# Altium footprint library UNCLEAR.PcbLib: 52 footprints (part 3 of 4)
Each footprint in its own frame and in the unit in brackets; x right, y up, seen from the top. Pads: shape width x height; smd on the part's side, far side on the other; paste and mask are expansions set on the pad; w line width, h text height; cw(c..) or ccw(c..) is an arc to the next point about the centre after c.
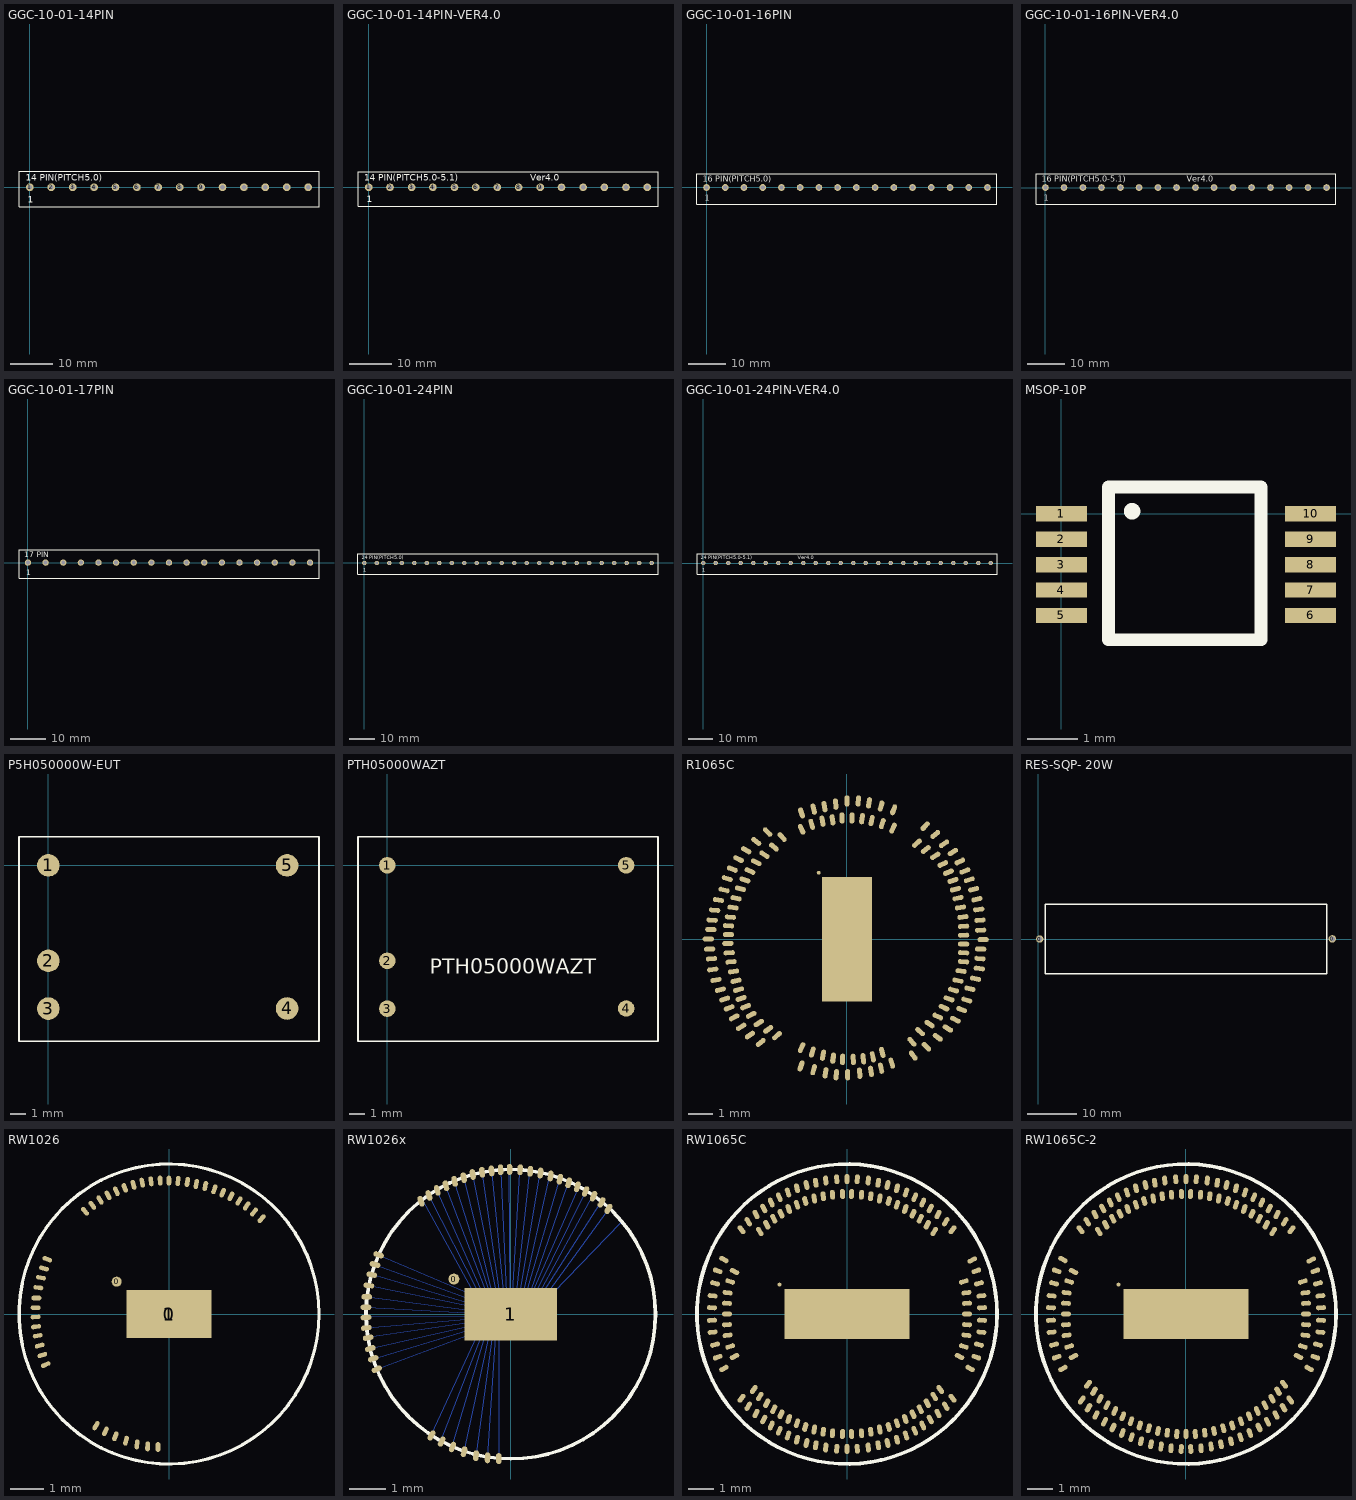
[diagram p2: the footprints below, top view; thin cyan lines are the x and y axes]

## GGC-10-01-14PIN [mm]
pads (14):
  round 1.8 hole 1.1: 1(0,0.002) 2(5,0.002) 3(10,0.002) 4(15,0.002) 5(20,0.002) 6(25,0.002) 7(30,0.002) 8(35,0.002) 9(40,0.002) 10(45,0.002) 11(50,0.002) 12(55,0.002) 13(60,0.002) 14(65,0.002)
Top Overlay:
  lines w0.254: -2.54,-4.498 -2.54,3.702 67.54,3.702 67.54,-4.498 -2.54,-4.498
  text "14 PIN(PITCH5.0)" at -1.016,1.526 h1.52
  text "1" at -0.508,-3.554 h1.52

## GGC-10-01-14PIN-VER4.0 [mm]
pads (14):
  round 1.8 hole 1.1: 1(0,0) 2(5,0) 3(10.1,0) 4(15.1,0) 5(20.2,0) 6(25.2,0) 7(30.3,0) 8(35.3,0) 9(40.4,0) 10(45.4,0) 11(50.5,0) 12(55.5,0) 13(60.6,0) 14(65.6,0)
Top Overlay:
  lines w0.254: -2.54,-4.5 -2.54,3.7 68.14,3.7 68.14,-4.5 -2.54,-4.5
  text "Ver4.0" at 38.1,1.524 h1.52
  text "14 PIN(PITCH5.0-5.1)" at -1.016,1.524 h1.52
  text "1" at -0.508,-3.556 h1.52

## GGC-10-01-16PIN [mm]
pads (16):
  round 1.8 hole 1.1: 1(-0.002,-0.001) 2(4.998,-0.001) 3(9.998,-0.001) 4(14.998,-0.001) 5(19.998,-0.001) 6(24.998,-0.001) 7(29.998,-0.001) 8(34.998,-0.001) 9(39.998,-0.001) 10(44.998,-0.001) 11(49.998,-0.001) 12(54.998,-0.001) 13(59.998,-0.001) 14(64.998,-0.001) 15(69.998,-0.001) 16(74.998,-0.001)
Top Overlay:
  lines w0.254: -2.542,-4.501 77.538,-4.501 77.538,3.699 -2.542,3.699 -2.542,-4.501
  text "1" at -0.51,-3.557 h1.52
  text "16 PIN(PITCH5.0)" at -1.018,1.523 h1.52

## GGC-10-01-16PIN-VER4.0 [mm]
pads (16):
  round 1.8 hole 1.1: 1(-0.001,0) 2(4.999,0) 3(10.099,0) 4(15.099,0) 5(20.199,0) 6(25.199,0) 7(30.299,0) 8(35.299,0) 9(40.399,0) 10(45.399,0) 11(50.499,0) 12(55.499,0) 13(60.599,0) 14(65.599,0) 15(70.699,0) 16(75.699,0)
Top Overlay:
  lines w0.254: -2.541,-4.5 78.239,-4.5 78.239,3.7 -2.541,3.7 -2.541,-4.5
  text "1" at -0.509,-3.556 h1.52
  text "16 PIN(PITCH5.0-5.1)" at -1.017,1.524 h1.52
  text "Ver4.0" at 38.099,1.524 h1.52

## GGC-10-01-17PIN [mm]
pads (17):
  round 1.8 hole 1.1: 1(0,0) 2(5,0) 3(10,0) 4(15,0) 5(20,0) 6(25,0) 7(30,0) 8(35,0) 9(40,0) 10(45,0) 11(50,0) 12(55,0) 13(60,0) 14(65,0) 15(70,0) 16(75,0) 17(80,0)
Top Overlay:
  lines w0.254: -2.54,-4.5 -2.54,3.7 82.54,3.7 82.54,-4.5 -2.54,-4.5
  text "17 PIN" at -1.016,1.524 h1.52
  text "1" at -0.508,-3.556 h1.52

## GGC-10-01-24PIN [mm]
pads (24):
  round 1.8 hole 1.1: 1(-0.002,-0.001) 2(4.998,-0.001) 3(9.998,-0.001) 4(14.998,-0.001) 5(19.998,-0.001) 6(24.998,-0.001) 7(29.998,-0.001) 8(34.998,-0.001) 9(39.998,-0.001) 10(44.998,-0.001) 11(49.998,-0.001) 12(54.998,-0.001) 13(59.998,-0.001) 14(64.998,-0.001) 15(69.998,-0.001) 16(74.998,-0.001) 17(79.998,-0.001) 18(84.998,-0.001) 19(89.998,-0.001) 20(94.998,-0.001) 21(99.998,-0.001) 22(104.998,-0.001) 23(109.998,-0.001) 24(114.998,-0.001)
Top Overlay:
  lines w0.254: -2.542,-4.501 -2.542,3.699 117.538,3.699 117.538,-4.501 -2.542,-4.501
  text "24 PIN(PITCH5.0)" at -1.018,1.523 h1.52
  text "1" at -0.51,-3.557 h1.52

## GGC-10-01-24PIN-VER4.0 [mm]
pads (24):
  round 1.8 hole 1.1: 1(-0.001,-0.001) 2(4.999,-0.001) 3(10.099,-0.001) 4(15.099,-0.001) 5(20.199,-0.001) 6(25.199,-0.001) 7(30.299,-0.001) 8(35.299,-0.001) 9(40.399,-0.001) 10(45.399,-0.001) 11(50.499,-0.001) 12(55.499,-0.001) 13(60.599,-0.001) 14(65.599,-0.001) 15(70.699,-0.001) 16(75.699,-0.001) 17(80.799,-0.001) 18(85.799,-0.001) 19(90.899,-0.001) 20(95.899,-0.001) 21(100.999,-0.001) 22(105.999,-0.001) 23(111.099,-0.001) 24(116.099,-0.001)
Top Overlay:
  lines w0.254: -2.541,-4.501 118.639,-4.501 118.639,3.699 -2.541,3.699 -2.541,-4.501
  text "1" at -0.509,-3.557 h1.52
  text "24 PIN(PITCH5.0-5.1)" at -1.017,1.523 h1.52
  text "Ver4.0" at 38.099,1.523 h1.52

## MSOP-10P [mm]
pads (10):
  rect 1x0.3 smd: 1(0,0) 2(0,-0.5) 3(0,-1) 4(0,-1.5) 5(0,-2) 6(4.9,-2) 7(4.9,-1.5) 8(4.9,-1) 9(4.9,-0.5) 10(4.9,0)
Top Overlay:
  circle w0.254: c1.39,0.05 r0.035
  lines w0.25: 0.925,-2.475 0.925,0.525 3.925,0.525 3.925,-2.475 0.925,-2.475
3D body "User Library-MSOP-10-1.STEP": height 1.05, standoff 0, extent -0.108,-2.517 4.919,0.483

## P5H050000W-EUT [mm]
pads (5):
  round 1.5 smd: 1(0,0) 2(0,-6.35) 3(0,-9.53) 4(15.88,-9.52) 5(15.88,0)
Top Overlay:
  lines w0.1: -1.95,1.89 -1.95,-11.7 17.99,-11.7 ; -1.95,1.9 17.99,1.9 ; 18,-11.7 18,1.89

## PTH05000WAZT [mm]
pads (5):
  round 1.1 smd: 1(0.004,-0.002) 2(0.004,-6.352) 3(0.004,-9.532) 4(15.884,-9.522) 5(15.884,-0.002)
Top Overlay:
  lines w0.1: -1.946,1.888 -1.946,-11.702 17.994,-11.702 ; -1.946,1.898 17.994,1.898 ; 18.004,-11.702 18.004,1.888
  text "PTH05000WAZT" at 2.829,-7.227 h1

## R1065C [mil]
pads (136):
  oval 18x8 smd rot 72: ADCP(-54.98,-179.03) C29(56.02,183.32)
  oval 18x8 smd rot 5: BS0P(-214.98,-31.03) S43(211.02,30.32)
  oval 18x8 smd rot 6: BS1P(-183.98,-36.03) S44(184.02,35.32)
  oval 18x8 smd rot 165: C0(-168.98,80.07) S28(169.02,-80.68)
  oval 18x8 smd rot 162: C1(-189.98,96.07) S27(190.02,-96.68)
  oval 18x8 smd rot 161: C2(-161.98,94.07) S26(162.02,-94.68)
  oval 18x8 smd rot 159: C3(-181.98,111.07) S25(182.02,-111.68)
  oval 18x8 smd rot 155: C4(-153.98,108.07) S24(154.02,-108.68)
  oval 18x8 smd rot 154: C5(-171.98,127.07) S23(172.02,-127.68)
  oval 18x8 smd rot 153: C6(-143.98,122.07) S22(144.02,-122.68)
  oval 18x8 smd rot 150: C7(-159.98,141.07) S21(160.02,-141.68)
  oval 18x8 smd rot 147: C8(-130.98,134.07) S20(131.02,-134.68)
  oval 18x8 smd rot 143: C9(-143.98,155.07) S19(144.02,-155.68)
  oval 18x8 smd rot 139: C10(-115.98,146.07) S18(116.02,-146.68)
  oval 18x8 smd rot 135: C11(-125.98,170.07) S17(126.02,-170.68)
  oval 18x8 smd rot 132: C12(-102.98,162.07) S16(103.02,-162.68)
  oval 18x8 smd rot 115: C13(-71.98,174.32)
  oval 18x8 smd rot 108: C14(-71.98,200.32) S14(71.02,-196.68)
  oval 18x8 smd rot 107: C15(-55.98,182.32)
  oval 18x8 smd rot 103: C16(-52.98,206.32) S12(54.02,-204.68)
  oval 18x8 smd rot 101: C17(-38.98,187.32) S11(41.02,-186.68)
  oval 18x8 smd rot 99: C18(-35.74,210.32) S10(38.02,-209.68)
  oval 18x8 smd rot 97: C19(-22.98,189.32)
  oval 18x8 smd rot 94: C20(-17.98,214.32) S8(20.02,-212.68)
  oval 18x8 smd rot 92: C21(-7.98,192.32) S7(10.02,-190.68)
  oval 8x18 smd: C22(0.02,219.32) S6(1.02,-215.03)
  oval 18x8 smd rot 88: C23(8.02,192.32) S5(-6.98,-190.68)
  oval 18x8 smd rot 85: C24(18.02,219.32) S4(-16.98,-215.03)
  oval 18x8 smd rot 83: C25(24.02,191.32) S3(-21.98,-188.68)
  oval 18x8 smd rot 81: C26(35.02,216.32) S2(-33.98,-212.03)
  oval 18x8 smd rot 78: C27(39.02,188.32) S1(-37.98,-184.03)
  oval 18x8 smd rot 75: C28(54.02,211.32) S0(-52.98,-207.03)
  oval 18x8 smd rot 70: C30(74.02,205.32) CLL(-72.98,-201.03)
  oval 18x8 smd rot 66: C31(73.02,176.32) VSS(-71.98,-172.03)
  oval 18x8 smd rot 178: CAP1N(-215.98,15.32) S37(212.02,-15.68)
  oval 18x8 smd rot 179: CAP1P(-187.98,7.32) S38(185.02,-7.68)
  oval 18x8 smd rot 1: CAP2N(-188.98,-6.68) S40(185.02,6.32)
  oval 18x8 smd: CAP2P(-219.98,0.32) S39(216.02,-0.68)
  oval 18x8 smd rot 176: CAP3P(-187.98,21.32) S36(185.02,-21.68)
  oval 18x8 smd rot 12: CLSP(-207.98,-64.68)
  oval 18x8 smd rot 23: CS1BP(-160.98,-107.03) S54(161.02,106.32)
  oval 18x8 smd rot 22: CS2P(-186.98,-109.03) S53(187.02,108.32)
  oval 18x8 smd rot 42: D0(-110.98,-153.03) S62(111.02,152.32)
  oval 18x8 smd rot 40: D1(-136.98,-163.68) S61(140.02,166.32)
  oval 18x8 smd rot 37: D2(-124.98,-143.03) S60(125.02,142.32)
  oval 18x8 smd rot 35: D3(-153.98,-152.03) S59(154.02,151.32)
  oval 18x8 smd rot 32: D4(-139.98,-133.03) S58(140.02,132.32)
  oval 18x8 smd rot 31: D5(-167.98,-139.03) S57(168.02,138.32)
  oval 18x8 smd rot 27: D6(-151.98,-120.03) D7(-178.98,-124.03) S55(179.02,123.32) S56(152.02,119.32)
  oval 18x8 smd rot 19: E(-167.98,-94.03) S52(168.02,93.32)
  oval 18x8 smd rot 10: FRR(-179.98,-51.03) S46(180.02,50.32)
  oval 18x8 smd rot 8: MSP(-212.98,-48.03) S45(209.02,47.32)
  oval 18x8 smd rot 18: RS(-193.98,-95.03) S51(194.02,94.32)
  oval 18x8 smd rot 13: RSTP(-175.98,-66.03) S48(176.02,65.32)
  oval 18x8 smd rot 16: RW(-171.98,-80.03) S50(172.02,79.32)
  oval 18x8 smd rot 96: S9(26.02,-189.68)
  oval 18x8 smd rot 105: S13(56.02,-179.68)
  oval 18x8 smd rot 127: S15(105.02,-184.68)
  oval 18x8 smd rot 166: S29(195.02,-78.68) V1(-194.98,78.07)
  oval 18x8 smd rot 168: S30(176.02,-65.68) V4(-175.98,65.07)
  oval 18x8 smd rot 169: S31(204.02,-62.68) V2(-203.98,62.07)
  oval 18x8 smd rot 172: S32(181.02,-50.68) V3(-180.98,50.07)
  oval 18x8 smd rot 173: S33(210.02,-46.68) VRAE(-209.98,46.07)
  oval 18x8 smd rot 174: S34(185.02,-35.68) V0(-184.98,35.07)
  oval 18x8 smd rot 175: S35(211.02,-30.68) VOUT(-213.98,30.32)
  oval 18x8 smd rot 2: S41(212.02,14.32) VDD2(-217.98,-15.68)
  oval 18x8 smd rot 4: S42(185.02,20.32) SHLP(-186.98,-21.68)
  oval 18x8 smd rot 14: S47(206.02,63.32)
  oval 18x8 smd rot 15: S49(201.02,79.32) VDD(-200.98,-80.03)
  oval 18x8 smd rot 46: S63(124.02,179.32)
  round 6 smd: ""(-44.98,105.32)
  round 465 on Top Solder: ""(0.02,0.32)
  rect 79x198 smd: ""(0.02,-0.03)
Bottom Overlay:
  circle w5: c0.02,0.32 r238

## RES-SQP- 20W [mm]
pads (2):
  round 1.5 hole 1: 0(0.26,0) 0(59.521,0.027)
Top Overlay:
  lines w0.254: 1.391,-7 1.391,7 58.388,7 58.388,-7 1.391,-7
3D body "RES SQP 20W.STEP": height 13, standoff -2.4, extent -0.082,-7.002 59.918,6.998

## RW1026 [mm]
pads (44):
  round 0.3 smd: 0(-1.57,0.97)
  round 8.6 on Top Solder: 0(0,0)
  rect 2.55x1.45 smd: 1(0,0)
  oval 0.3x0.14 smd rot 16: A0(-3.88,-0.95)
  oval 0.3x0.14 smd rot 77: COM0(-1.29,-3.8)
  oval 0.3x0.14 smd rot 85: COM1(-0.96,-3.91)
  oval 0.3x0.14 smd rot 88: COM2(-0.64,-3.97)
  oval 0.14x0.3 smd: COM3(-0.33,-3.99) S10(-0.002,4)
  oval 0.3x0.14 smd rot 12: CSB(-3.94,-0.65)
  oval 0.3x0.14 smd rot 24: DATA(-3.7,-1.52)
  oval 0.3x0.14 smd rot 4: IF0(-4,-0.09)
  oval 0.3x0.14 smd: IF1(-4,0.19) VDD(-3.98,0.48)
  oval 0.3x0.14 smd rot 65: OSC1(-1.91,-3.52)
  oval 0.3x0.14 smd rot 60: OSC2(-2.19,-3.35) S18(2.1,3.39)
  oval 0.3x0.14 smd rot 70: RST(-1.61,-3.67)
  oval 0.3x0.14 smd rot 130: S0(-2.52,3.08)
  oval 0.3x0.14 smd rot 126: S1(-2.3,3.26)
  oval 0.3x0.14 smd rot 122: S2(-2.07,3.42)
  oval 0.3x0.14 smd rot 118: S3(-1.83,3.56)
  oval 0.3x0.14 smd rot 114: S4(-1.58,3.68)
  oval 0.3x0.14 smd rot 110: S5(-1.324,3.784)
  oval 0.3x0.14 smd rot 106: S6(-1.064,3.874)
  oval 0.3x0.14 smd rot 102: S7(-0.805,3.94)
  oval 0.3x0.14 smd rot 98: S8(-0.539,3.981)
  oval 0.3x0.14 smd rot 92: S9(-0.265,4.002)
  oval 0.3x0.14 smd rot 86: S11(0.27,3.99)
  oval 0.3x0.14 smd rot 82: S12(0.55,3.96)
  oval 0.3x0.14 smd rot 80: S13(0.82,3.9)
  oval 0.3x0.14 smd rot 76: S14(1.09,3.84)
  oval 0.3x0.14 smd rot 72: S15(1.36,3.74)
  oval 0.3x0.14 smd rot 68: S16(1.61,3.64)
  oval 0.3x0.14 smd rot 64: S17(1.86,3.53)
  oval 0.3x0.14 smd rot 56: S19(2.33,3.24)
  oval 0.3x0.14 smd rot 52: S20(2.55,3.06)
  oval 0.3x0.14 smd rot 48: S21(2.78,2.86)
  oval 0.3x0.14 smd rot 20: SCLK(-3.8,-1.23)
  oval 0.3x0.14 smd rot 172: V0(-3.92,0.79)
  oval 0.3x0.14 smd rot 168: V1(-3.84,1.09)
  oval 0.3x0.14 smd rot 164: V2(-3.75,1.37)
  oval 0.3x0.14 smd rot 160: VRAB(-3.65,1.64)
  oval 0.3x0.14 smd rot 8: VSS(-3.99,-0.38)
Top Overlay:
  circle w0.1: c0,0 r4.5

## RW1026x [mm]
pads (110):
  round 0.3 smd: 0(-1.57,0.97)
  rect 0.08x0.08 smd far side: 1(-1.22,0.59) 2(-1.22,0.465) 3(-1.22,0.346) 4(-1.22,0.236) 5(-1.22,0.137) 6(-1.22,0.044) 7(-1.22,-0.047) 8(-1.22,-0.14) 9(-1.22,-0.239) 10(-1.22,-0.349) 11(-1.22,-0.468) 12(-1.22,-0.592) 13(-0.92,-0.592) 14(-0.801,-0.592) 15(-0.691,-0.592) 16(-0.592,-0.592) 17(-0.499,-0.592) 18(-0.407,-0.592) 19(-0.314,-0.592) 20(-0.222,-0.592) 21(-0.129,-0.592) 22(-0.037,-0.592) 23(0.055,-0.592) 24(0.147,-0.592) 25(0.24,-0.592) 26(0.332,-0.592) 27(0.425,-0.592) 28(0.517,-0.592) 29(0.61,-0.592) 30(0.702,-0.592) 31(0.802,-0.592) 32(0.911,-0.592) 33(1.031,-0.592) 34(1.152,-0.592) 35(1.152,-0.468) 36(1.152,-0.349) 37(1.152,-0.239) 38(1.152,-0.14) 39(1.152,-0.047) 40(1.152,0.044) 41(1.152,0.137) 42(1.152,0.236) 43(1.152,0.346) 44(1.152,0.465) 45(1.152,0.592) 46(1.024,0.592) 47(0.904,0.592) 48(0.8,0.592) 49(0.707,0.592) 50(0.615,0.592) 51(0.522,0.592) 52(0.43,0.592) 53(0.337,0.592) 54(0.245,0.592) 55(0.152,0.592) 56(0.06,0.592) 57(-0.032,0.592) 58(-0.124,0.592) 59(-0.217,0.592) 60(-0.309,0.592) 61(-0.402,0.592) 62(-0.494,0.592) 63(-0.587,0.592) 64(-0.679,0.592) 65(-0.779,0.592) 66(-0.888,0.592) 67(-1.008,0.592)
  rect 2.55x1.45 smd: 1(0,0)
  oval 0.3x0.15 smd rot 16: A0(-3.88,-0.95)
  oval 0.3x0.15 smd rot 77: COM0(-1.29,-3.8)
  oval 0.3x0.15 smd rot 85: COM1(-0.96,-3.91)
  oval 0.3x0.15 smd rot 88: COM2(-0.64,-3.97) S11(0.26,3.99)
  oval 0.15x0.3 smd: COM3(-0.33,-3.99) S10(-0.03,4)
  oval 0.3x0.15 smd rot 12: CSB(-3.94,-0.65)
  oval 0.3x0.15 smd rot 24: DATA(-3.7,-1.52)
  oval 0.3x0.15 smd rot 4: IF0(-4,-0.09)
  oval 0.3x0.15 smd: IF1(-4,0.19) VDD(-3.98,0.48)
  oval 0.3x0.15 smd rot 65: OSC1(-1.91,-3.52)
  oval 0.3x0.15 smd rot 60: OSC2(-2.19,-3.35) S21(2.7,2.91)
  oval 0.3x0.15 smd rot 70: RST(-1.61,-3.67)
  oval 0.3x0.15 smd rot 110: S0(-2.48,3.12)
  oval 0.3x0.15 smd rot 108: S1(-2.26,3.28)
  oval 0.3x0.15 smd rot 106: S2(-2.03,3.42)
  oval 0.3x0.15 smd rot 104: S3(-1.79,3.55)
  oval 0.3x0.15 smd rot 102: S4(-1.55,3.67)
  oval 0.3x0.15 smd rot 100: S5(-1.3,3.77)
  oval 0.3x0.15 smd rot 98: S6(-1.05,3.86)
  oval 0.3x0.15 smd rot 96: S7(-0.79,3.92)
  oval 0.3x0.15 smd rot 94: S8(-0.53,3.96)
  oval 0.3x0.15 smd rot 92: S9(-0.28,3.99)
  oval 0.3x0.15 smd rot 86: S12(0.54,3.95)
  oval 0.3x0.15 smd rot 84: S13(0.82,3.9)
  oval 0.3x0.15 smd rot 81: S14(1.1,3.82)
  oval 0.3x0.15 smd rot 78: S15(1.36,3.73)
  oval 0.3x0.15 smd rot 75: S16(1.6,3.63)
  oval 0.3x0.15 smd rot 72: S17(1.84,3.52)
  oval 0.3x0.15 smd rot 69: S18(2.07,3.39)
  oval 0.3x0.15 smd rot 66: S19(2.29,3.26)
  oval 0.3x0.15 smd rot 63: S20(2.51,3.09)
  oval 0.3x0.15 smd rot 20: SCLK(-3.8,-1.23)
  oval 0.3x0.15 smd rot 172: V0(-3.92,0.79)
  oval 0.3x0.15 smd rot 168: V1(-3.84,1.09)
  oval 0.3x0.15 smd rot 164: V2(-3.75,1.37)
  oval 0.3x0.15 smd rot 160: VRAB(-3.65,1.64)
  oval 0.3x0.15 smd rot 8: VSS(-3.99,-0.38)
Bottom Layer:
  lines w0.01: -4,-0.07 -1.214,-0.057 ; -3.98,0.19 -1.22,0.044 ; -3.97,-0.38 -1.232,-0.14 ; -3.97,0.48 -1.222,0.127 ; -3.932,0.8 -1.212,0.24 ; -3.91,-0.63 -1.232,-0.23 ; -3.85,-0.94 -1.232,-0.35 ; -3.83,1.1 -1.212,0.336 ; -3.79,-1.23 -1.224,-0.46 ; -3.75,1.37 -1.212,0.455 ; -3.68,-1.51 -1.232,-0.59 ; -3.66,1.64 -1.212,0.6 ; -2.42,3.1 -1.018,0.582 ; -2.26,3.27 -0.898,0.592 ; -2.18,-3.32 -0.92,-0.592 ; -2.03,3.38 -0.79,0.584 ; -1.92,-3.48 -0.8,-0.59 ; -1.79,3.51 -0.68,0.592 ; -1.6,-3.61 -0.7,-0.592 ; -1.54,3.61 -0.597,0.592 ; -1.28,3.7 -0.52,0.592 ; -1.27,-3.73 -0.6,-0.602 ; -1.05,3.81 -0.4,0.584 ; -0.94,-3.83 -0.49,-0.602 ; -0.79,3.85 -0.319,0.592 ; -0.64,-3.95 -0.41,-0.612 ; -0.53,3.89 -0.21,0.602 ; -0.32,-3.9 -0.31,-0.612 ; -0.27,3.93 -0.12,0.602 ; -0.05,3.91 -0.03,0.592 ; 0.05,0.592 0.25,3.9 ; 0.16,0.602 0.52,3.91 ; 0.27,0.622 0.8,3.83 ; 0.36,0.612 1.07,3.75 ; 0.45,0.604 1.34,3.68 ; 0.55,0.622 1.58,3.58 ; 0.625,0.632 1.86,3.47 ; 0.712,0.612 2.07,3.38 ; 0.8,0.596 2.26,3.25 ; 0.9,0.612 2.47,3.06 ; 1.034,0.612 2.69,2.89 ; 1.18,0.592 3.05,2.54
Top Overlay:
  circle w0.1: c0,0 r4

## RW1065C [mm] "LCD  DRIVER"
pads (135):
  oval 0.4x0.2 smd rot 18: ADCR(4.675,1.3) C28(-4.675,-1.3)
  oval 0.4x0.2 smd rot 86: BS0P(0.85,5.34) S43(-0.85,-5.34)
  oval 0.4x0.2 smd rot 83: BS1P(0.95,4.71) S44(-0.95,-4.71)
  oval 0.4x0.2 smd rot 108: C0(-2,4.37) C1(-2.36,4.86) S27(2.36,-4.86) S28(2,-4.37)
  oval 0.4x0.2 smd rot 110: C2(-2.33,4.2) S26(2.33,-4.2)
  oval 0.4x0.2 smd rot 113: C3(-2.71,4.67) C4(-2.64,4.01) C5(-3.03,4.46) S23(3.03,-4.46) S24(2.64,-4.01) S25(2.71,-4.67)
  oval 0.4x0.2 smd rot 115: C6(-2.93,3.81) C7(-3.33,4.22) S21(3.33,-4.22) S22(2.93,-3.81)
  oval 0.4x0.2 smd rot 118: C8(-3.21,3.57) C9(-3.64,3.98) S19(3.64,-3.98) S20(3.21,-3.57)
  oval 0.4x0.2 smd rot 123: C10(-3.49,3.3) C11(-3.95,3.69) S17(3.95,-3.69) S18(3.49,-3.3)
  oval 0.4x0.2 smd rot 128: C12(-4.22,3.37) S15(4.22,-3.37)
  oval 0.4x0.2 smd rot 153: C13(-4.925,2.175) S14(4.925,-2.175)
  oval 0.4x0.2 smd rot 155: C14(-4.5,1.7) S13(4.5,-1.7)
  oval 0.4x0.2 smd rot 160: C15(-5.175,1.725) S12(5.175,-1.725)
  oval 0.4x0.2 smd rot 162: C16(-4.675,1.3) S11(4.675,-1.3)
  oval 0.4x0.2 smd rot 165: C17(-5.275,1.225) S10(5.275,-1.225)
  oval 0.4x0.2 smd rot 170: C18(-4.775,0.85) S9(4.775,-0.85)
  oval 0.4x0.2 smd rot 173: C19(-5.375,0.725) S8(5.375,-0.725)
  oval 0.4x0.2 smd rot 175: C20(-4.8,0.425) S7(4.8,-0.425)
  oval 0.4x0.2 smd rot 177: C21(-5.4,0.253) S6(5.4,-0.253)
  oval 0.4x0.2 smd: C22(-4.8,0) S5(4.8,0)
  oval 0.4x0.2 smd rot 3: C23(-5.4,-0.253) S4(5.4,0.253)
  oval 0.4x0.2 smd rot 5: C24(-4.8,-0.425) S3(4.8,0.425)
  oval 0.4x0.2 smd rot 7: C25(-5.375,-0.725) S2(5.375,0.725)
  oval 0.4x0.2 smd rot 10: C26(-4.775,-0.85) S1(4.775,0.85)
  oval 0.4x0.2 smd rot 15: C27(-5.275,-1.225) S0(5.275,1.225)
  oval 0.4x0.2 smd rot 20: C29(-5.175,-1.725) CLL(5.175,1.725)
  oval 0.4x0.2 smd rot 25: C30(-4.5,-1.7) VSS(5.01,2.16)
  oval 0.4x0.2 smd rot 27: C31(-4.925,-2.175)
  oval 0.4x0.2 smd rot 93: CAP1N(-0.41,5.39) S37(0.41,-5.39)
  oval 0.4x0.2 smd rot 92: CAP1P(-0.18,4.8) S38(0.18,-4.8)
  oval 0.4x0.2 smd rot 88: CAP2N(0.18,4.8) S40(-0.18,-4.8)
  oval 0.2x0.4 smd: CAP2P(0.001,5.397) S39(-0.001,-5.397)
  oval 0.4x0.2 smd rot 95: CAP3P(-0.58,4.77) S36(0.58,-4.77)
  oval 0.4x0.2 smd rot 77: CLS(1.62,5.16) S47(-1.62,-5.16)
  oval 0.4x0.2 smd rot 67: CS1BP(2.64,4.01) CS2P(2.71,4.67) D7(3.03,4.46) S53(-2.71,-4.67) S54(-2.64,-4.01) S55(-3.03,-4.46)
  oval 0.4x0.2 smd rot 52: D0(4.22,3.37) S63(-4.22,-3.37)
  oval 0.4x0.2 smd rot 57: D1(3.95,3.69) D2(3.49,3.3) S60(-3.49,-3.3) S61(-3.95,-3.69)
  oval 0.4x0.2 smd rot 62: D3(3.64,3.98) D4(3.21,3.57) S58(-3.21,-3.57) S59(-3.64,-3.98)
  oval 0.4x0.2 smd rot 65: D5(3.33,4.22) D6(2.93,3.81) S56(-2.93,-3.81) S57(-3.33,-4.22)
  oval 0.4x0.2 smd rot 70: E(2.33,4.2) S52(-2.33,-4.2)
  oval 0.4x0.2 smd rot 80: FRR(1.31,4.62) MSP(1.25,5.25) S45(-1.25,-5.25) S46(-1.31,-4.62)
  oval 0.4x0.2 smd rot 72: RS(2.36,4.86) RW(2,4.37) S50(-2,-4.37) S51(-2.36,-4.86)
  oval 0.4x0.2 smd rot 75: RST(1.67,4.52) S48(-1.67,-4.52) S49(-2,-5.03) VDD(2,5.03)
  oval 0.4x0.2 smd rot 126: S16(3.73,-3.02)
  oval 0.4x0.2 smd rot 105: S29(2,-5.03) S30(1.67,-4.52) V1(-2,5.03) V4(-1.67,4.52)
  oval 0.4x0.2 smd rot 103: S31(1.62,-5.16) V2(-1.62,5.16)
  oval 0.4x0.2 smd rot 100: S32(1.31,-4.62) S33(1.25,-5.25) V3(-1.31,4.62) VRAB(-1.25,5.25)
  oval 0.4x0.2 smd rot 97: S34(0.95,-4.71) V0(-0.95,4.71)
  oval 0.4x0.2 smd rot 94: S35(0.85,-5.34) VOUT(-0.85,5.34)
  oval 0.4x0.2 smd rot 87: S41(-0.41,-5.39) VDD2(0.41,5.39)
  oval 0.4x0.2 smd rot 85: S42(-0.58,-4.77) SHLP(0.58,4.77)
  oval 0.4x0.2 smd rot 54: S62(-3.73,-3.02)
  round 0.152 smd: ""(-2.7,1.175)
  rect 5x2 smd: ""(0,0)
Top Overlay:
  circle w0.15: c0,0 r6
Top Solder:
  circle w6: c0,0 r2.8

## RW1065C-2 [mm]
pads (135):
  oval 0.4x0.2 smd rot 18: ADCR(4.675,1.3) C28(-4.675,-1.3)
  oval 0.4x0.2 smd rot 86: BS0P(0.85,5.34)
  oval 0.4x0.2 smd rot 83: BS1P(0.95,4.71)
  oval 0.4x0.2 smd rot 108: C0(-2,4.37) C1(-2.36,4.86) S27(2.201,-4.29) S28(2.181,-4.93)
  oval 0.4x0.2 smd rot 110: C2(-2.33,4.2) S25(2.531,-4.09) S26(2.551,-4.76)
  oval 0.4x0.2 smd rot 113: C3(-2.71,4.67) C4(-2.64,4.01) C5(-3.03,4.46) S23(2.851,-3.88) S24(2.921,-4.54)
  oval 0.4x0.2 smd rot 115: C6(-2.93,3.81) C7(-3.33,4.22) S21(3.161,-3.65) S22(3.261,-4.31)
  oval 0.4x0.2 smd rot 118: C8(-3.21,3.57) C9(-3.64,3.98) S19(3.441,-3.39) S20(3.601,-4.04)
  oval 0.4x0.2 smd rot 123: C10(-3.49,3.3) C11(-3.95,3.69) S17(3.681,-3.09) S18(3.901,-3.75)
  oval 0.4x0.2 smd rot 128: C12(-4.22,3.37) S15(3.921,-2.81)
  oval 0.4x0.2 smd rot 153: C13(-4.925,2.175) S14(4.925,-2.175)
  oval 0.4x0.2 smd rot 155: C14(-4.5,1.7) S13(4.5,-1.7)
  oval 0.4x0.2 smd rot 160: C15(-5.175,1.725) S12(5.175,-1.725)
  oval 0.4x0.2 smd rot 162: C16(-4.675,1.3) S11(4.675,-1.3)
  oval 0.4x0.2 smd rot 165: C17(-5.275,1.225) S10(5.275,-1.225)
  oval 0.4x0.2 smd rot 170: C18(-4.775,0.85) S9(4.775,-0.85)
  oval 0.4x0.2 smd rot 173: C19(-5.375,0.725) S8(5.375,-0.725)
  oval 0.4x0.2 smd rot 175: C20(-4.8,0.425) S7(4.8,-0.425)
  oval 0.4x0.2 smd rot 177: C21(-5.4,0.253) S6(5.4,-0.253)
  oval 0.4x0.2 smd: C22(-4.8,0) S5(4.8,0)
  oval 0.4x0.2 smd rot 3: C23(-5.4,-0.253) S4(5.4,0.253)
  oval 0.4x0.2 smd rot 5: C24(-4.8,-0.425) S3(4.8,0.425)
  oval 0.4x0.2 smd rot 7: C25(-5.375,-0.725) S2(5.375,0.725)
  oval 0.4x0.2 smd rot 10: C26(-4.775,-0.85) S1(4.775,0.85)
  oval 0.4x0.2 smd rot 15: C27(-5.275,-1.225) S0(5.275,1.225)
  oval 0.4x0.2 smd rot 20: C29(-5.175,-1.725) CLL(5.175,1.725)
  oval 0.4x0.2 smd rot 25: C30(-4.5,-1.7) VSS(5.01,2.16)
  oval 0.4x0.2 smd rot 27: C31(-4.925,-2.175)
  oval 0.4x0.2 smd rot 93: CAP1N(-0.41,5.39) S37(0.371,-4.8)
  oval 0.4x0.2 smd rot 92: CAP1P(-0.18,4.8) S38(0.191,-5.4)
  oval 0.4x0.2 smd rot 88: CAP2N(0.18,4.8) S40(-0.189,-5.4)
  oval 0.2x0.4 smd: CAP2P(0.001,5.397) S39(0.001,-4.797)
  oval 0.4x0.2 smd rot 95: CAP3P(-0.58,4.77) S36(0.601,-5.37)
  oval 0.4x0.2 smd rot 77: CLS(1.62,5.16) S47(-1.489,-4.57)
  oval 0.4x0.2 smd rot 67: CS1BP(2.64,4.01) CS2P(2.71,4.67) D7(3.03,4.46) S54(-2.919,-4.54) S55(-2.849,-3.88)
  oval 0.4x0.2 smd rot 52: D0(4.22,3.37) S63(-3.919,-2.81)
  oval 0.4x0.2 smd rot 57: D1(3.95,3.69) D2(3.49,3.3) S60(-3.899,-3.75) S61(-3.679,-3.09)
  oval 0.4x0.2 smd rot 62: D3(3.64,3.98) D4(3.21,3.57) S58(-3.599,-4.04) S59(-3.439,-3.39)
  oval 0.4x0.2 smd rot 65: D5(3.33,4.22) D6(2.93,3.81) S56(-3.259,-4.31) S57(-3.159,-3.65)
  oval 0.4x0.2 smd rot 70: E(2.33,4.2) S52(-2.549,-4.76) S53(-2.529,-4.09)
  oval 0.4x0.2 smd rot 80: FRR(1.31,4.62) MSP(1.25,5.25) S45(-1.119,-4.68) S46(-1.399,-5.21)
  oval 0.4x0.2 smd rot 72: RS(2.36,4.86) RW(2,4.37) S50(-2.179,-4.93) S51(-2.199,-4.29)
  oval 0.4x0.2 smd rot 75: RST(1.67,4.52) S48(-1.799,-5.09) S49(-1.849,-4.46) VDD(2,5.03)
  oval 0.4x0.2 smd rot 126: S16(4.171,-3.44)
  oval 0.4x0.2 smd rot 105: S29(1.851,-4.46) S30(1.801,-5.09) V1(-2,5.03) V4(-1.67,4.52)
  oval 0.4x0.2 smd rot 103: S31(1.491,-4.57) V2(-1.62,5.16)
  oval 0.4x0.2 smd rot 100: S32(1.401,-5.21) S33(1.121,-4.68) V3(-1.31,4.62) VRAB(-1.25,5.25)
  oval 0.4x0.2 smd rot 96: S34(1.001,-5.3) S35(0.751,-4.75)
  oval 0.4x0.2 smd rot 87: S41(-0.369,-4.8) VDD2(0.41,5.39)
  oval 0.4x0.2 smd rot 85: S42(-0.599,-5.37) SHLP(0.58,4.77)
  oval 0.4x0.2 smd rot 84: S43(-0.749,-4.75) S44(-0.999,-5.3)
  oval 0.4x0.2 smd rot 54: S62(-4.169,-3.44)
  oval 0.4x0.2 smd rot 97: V0(-0.95,4.71)
  oval 0.4x0.2 smd rot 94: VOUT(-0.85,5.34)
  round 0.152 smd: ""(-2.7,1.175)
  rect 5x2 smd: ""(0,0)
Top Overlay:
  circle w0.15: c0,0 r6
Top Solder:
  circle w6: c0.001,0 r2.8